# EAGLE library part PCF8523TK_1,118 (library PCF8523TK_1_118)
Real Time Clock Serial Clock/Calendar/Alarm/Timer/Battery Backup 8-Pin HVSON EP T/R Source: Datasheet <http://www.nxp.com/docs/en/data-sheet/PCF8523.pdf>
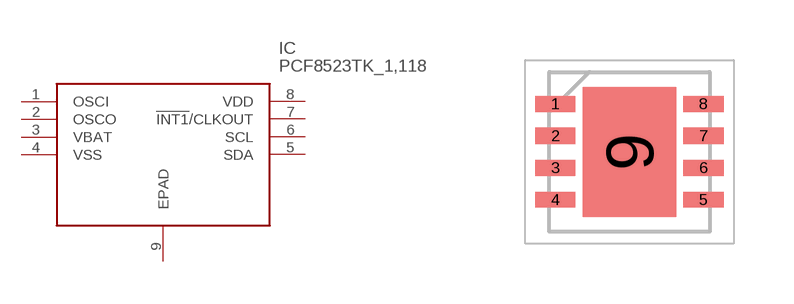
[diagram p0: symbol with the pads of SON80P400X400X100-9N; footprint SON80P400X400X100-9N]

Designator prefix IC

## PCF8523TK_1,118 (Description: Real Time Clock Serial Clock/Calendar/Alarm/Timer/Battery Backup 8-Pin HVSON EP T/R; Height: 1mm; Manufacturer_Name: NXP; Manufacturer_Part_Number: PCF8523TK/1,118; Mouser_Part_Number: 771-PCF8523TK/1118; Mouser_Price-Stock: https://www.mouser.co.uk/ProductDetail/NXP-Semiconductors/PCF8523TK-1118?qs=beN0Cyoe8Ym%252Bv1xGDkWHJQ%3D%3D)  [SON80P400X400X100-9N]
1  OSCI
2  OSCO
3  VBAT
4  VSS
5  SDA
6  SCL
7  !INT1!/CLKOUT
8  VDD
9  EPAD

## Footprint SON80P400X400X100-9N (pad centres in mm)
HVSON8
smd 1 x 0.4: 1 -1.85,1.2; 2 -1.85,0.4; 3 -1.85,-0.4; 4 -1.85,-1.2; 5 1.85,-1.2; 6 1.85,-0.4; 7 1.85,0.4; 8 1.85,1.2
smd 2.35 x 3.25: 9 0,0